# Altium integrated library Motorola RF and IF Frequency Synthesiser.IntLib: 27 symbols
Pins are listed as number, name and electrical type; pins without a type are passive.

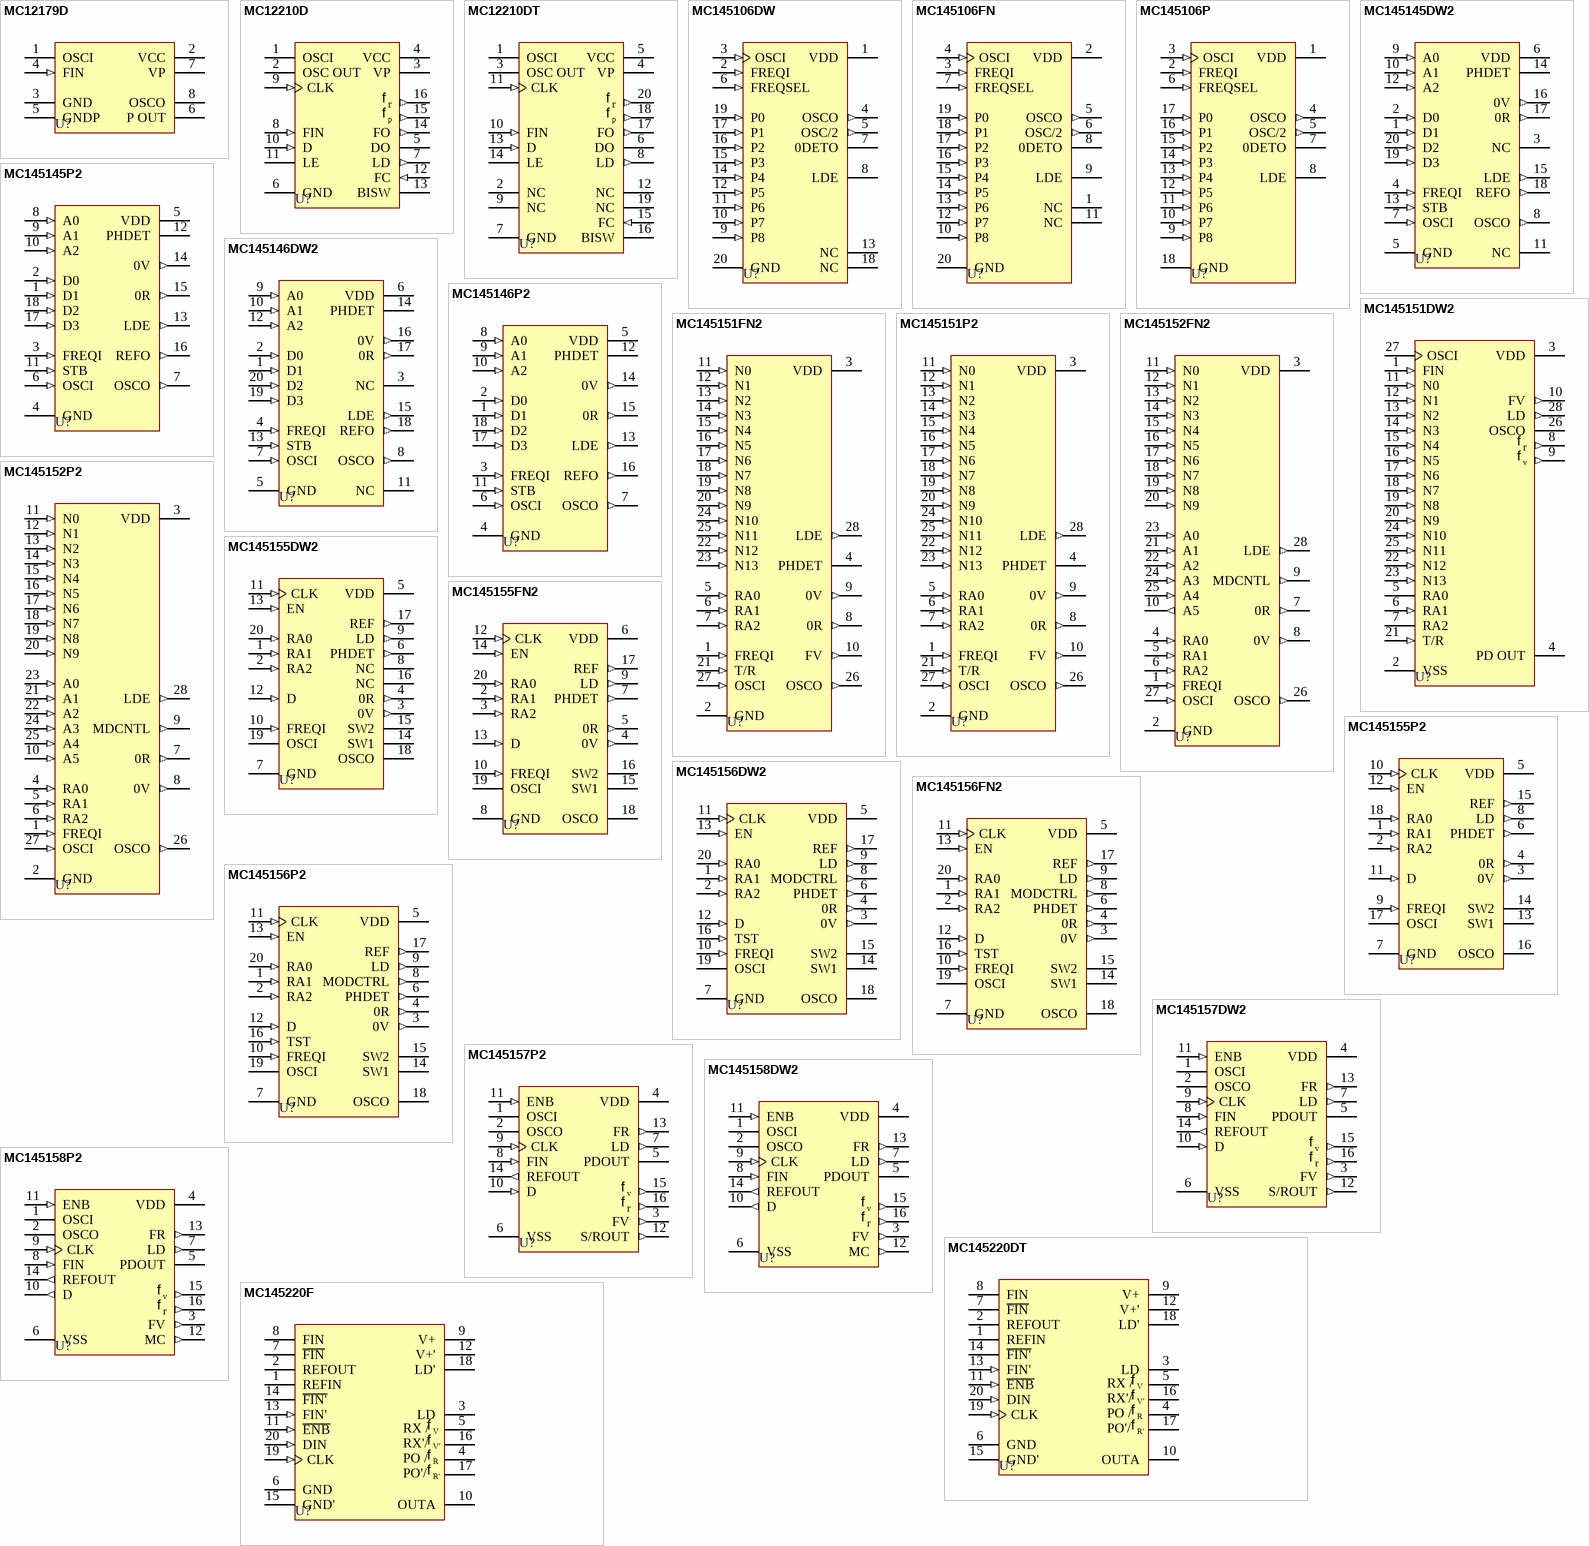
[diagram p0: symbols MC12179D to MC145220F]

## MC12179D
designator U?
500-2800MHZ Single Channel Frequency Synthesizer; Published: 28-Feb-2003; LatestRevisionDate: 13-Apr-2006; LatestRevisionNote: IPC-7351 Footprint Added.; DatasheetVersion: 1997, Rev. 3; PackageVersion: Sep-1999; PackageReference: 751-06; Publisher: Altium Limited; PackageDescription: 8-Pin Small Outline Integrated Circuit 1.27 mm Pitch; Code_JEDEC: MS-012-AA; Code_IPC: SOIC127P600-8
footprint 751-06_N (SOIC, 8-Leads, Body 4.9x3.9mm, Pitch 1.27mm, IPC Medium Density)
footprint 751-06_L (SOIC, 8-Leads, Body 4.9x3.9mm, Pitch 1.27mm, IPC High Density)
footprint 751-06_M (SOIC, 8-Leads, Body 4.9x3.9mm, Pitch 1.27mm, IPC Low Density)
3D model 751-06 (8-Pin Small Outline Integrated Circuit 1.27 mm Pitch)
pins: 1 OSCI, 2 VCC (power), 3 GND (power), 4 FIN (in), 5 GNDP (power), 6 P OUT (hiz), 7 VP (power), 8 OSCO

## MC12210D
designator U?
Serial-Input PLL Frequency Synthesizer; Published: 28-Feb-2003; LatestRevisionDate: 13-Apr-2006; LatestRevisionNote: IPC-7351 Footprint Added.; DatasheetVersion: 1997, Rev. 4; PackageVersion: May-1997; PackageReference: 751B-05; Publisher: Altium Limited; PackageDescription: 16-Pin Small Outline Integrated Circuit 1.27 mm Pitch; Code_JEDEC: MS-012-AC; Code_IPC: SOIC127P600-16
footprint 751B-05_N (SOIC, 16-Leads, Body 9.9x3.9mm, Pitch 1.27mm, IPC Medium Density)
footprint 751B-05_L (SOIC, 16-Leads, Body 9.9x3.9mm, Pitch 1.27mm, IPC High Density)
footprint 751B-05_M (SOIC, 16-Leads, Body 9.9x3.9mm, Pitch 1.27mm, IPC Low Density)
3D model 751B-05 (16-Pin Small Outline Integrated Circuit 1.27 mm Pitch)
pins: 1 OSCI, 2 OSC OUT, 3 VP (power), 4 VCC (power), 5 DO (hiz), 6 GND (power), 7 LD (out), 8 FIN (in), 9 CLK (in), 10 D (in), 11 LE, 12 FC (in), 13 BISW (hiz), 14 FO (out), 15 phiP (out), 16 phiR (out)
text: f; r; p

## MC12210DT
designator U?
Serial-Input PLL Frequency Synthesizer; Published: 28-Feb-2003; LatestRevisionDate: 06-Jun-2005; LatestRevisionNote: Stylized 3D Model Added.; DatasheetVersion: 1997, Rev. 4; PackageVersion: 1997; PackageReference: 948E-02; Publisher: Altium Limited; PackageDescription: Shrink Small Outline; 20 Leads; Body Width 4.4 mm; Pitch 0.65 mm
footprint 948E-02 (Shrink Small Outline; 20 Leads; Body Width 4.4 mm; Pitch 0.65 mm)
3D model 948E-02 (Shrink Small Outline; 20 Leads; Body Width 4.4 mm; Pitch 0.65 mm)
pins: 1 OSCI, 2 NC, 3 OSC OUT, 4 VP (power), 5 VCC (power), 6 DO (hiz), 7 GND (power), 8 LD (out), 9 NC, 10 FIN (in), 11 CLK (in), 12 NC, 13 D (in), 14 LE, 15 FC (in), 16 BISW (hiz), 17 FO (out), 18 phiP (out), 19 NC, 20 phiR (out)
text: f; r; p

## MC145106DW
designator U?
PLL Frequency Synthesizer; Note: Pins 13 & 18 NC and not drawn.; Published: 17-Jul-2002; LatestRevisionDate: 13-Apr-2006; LatestRevisionNote: IPC-7351 Footprint Added.; DatasheetVersion: 1991; PackageReference: 751D-03; Publisher: Altium Limited; PackageDescription: 20-Pin Small Outline Integrated Circuit 1.27 mm Pitch
footprint 751D-03_N (SOIC, 20-Leads, Body 12.8x7.5mm, Pitch 1.27mm, IPC Medium Density)
footprint 751D-03_L (SOIC, 20-Leads, Body 12.8x7.5mm, Pitch 1.27mm, IPC High Density)
footprint 751D-03_M (SOIC, 20-Leads, Body 12.8x7.5mm, Pitch 1.27mm, IPC Low Density)
3D model 751D-03 (20-Pin Small Outline Integrated Circuit 1.27 mm Pitch)
pins: 1 VDD (power), 2 FREQI (in), 3 OSCI (in), 4 OSCO (out), 5 OSC/2 (out), 6 FREQSEL (in), 7 0DETO (hiz), 8 LDE (hiz), 9 P8 (in), 10 P7 (in), 11 P6 (in), 12 P5 (in), 13 NC, 14 P4 (in), 15 P3 (in), 16 P2 (in), 17 P1 (in), 18 NC, 19 P0 (in), 20 GND (power)

## MC145106FN
designator U?
PLL Frequency Synthesizer; Note: Pins 1 & 11 NC and not drawn.; Published: 17-Jul-2002; LatestRevisionDate: 13-Apr-2006; LatestRevisionNote: IPC-7351 Footprint Added.; DatasheetVersion: 1991; PackageReference: 775-02; Publisher: Altium Limited; PackageDescription: 20-Pin Leaded Chip Carrier 1.27 mm Pitch
footprint 775-02_N (Leaded Chip Carrier, 20-Leads, Body 9x9mm, Pitch 1.27mm, IPC Medium Density)
footprint 775-02_L (Leaded Chip Carrier, 20-Leads, Body 9x9mm, Pitch 1.27mm, IPC High Density)
footprint 775-02_M (Leaded Chip Carrier, 20-Leads, Body 9x9mm, Pitch 1.27mm, IPC Low Density)
3D model MC145106-775-02 (20-Pin Leaded Chip Carrier 1.27 mm Pitch)
pins: 1 NC, 2 VDD (power), 3 FREQI (in), 4 OSCI (in), 5 OSCO (out), 6 OSC/2 (out), 7 FREQSEL (in), 8 0DETO (hiz), 9 LDE (hiz), 10 P8 (in), 11 NC, 12 P7 (in), 13 P6 (in), 14 P5 (in), 15 P4 (in), 16 P3 (in), 17 P2 (in), 18 P1 (in), 19 P0 (in), 20 GND (power)

## MC145106P
designator U?
PLL Frequency Synthesizer; Published: 17-Jul-2002; LatestRevisionDate: 06-Jun-2005; LatestRevisionNote: Stylized 3D Model Added.; DatasheetVersion: 1991; PackageReference: 707-02; Publisher: Altium Limited; PackageDescription: DIP; 18 Leads; Row Spacing 7.62 mm; Pitch 2.54 mm
footprint 707-02 (DIP; 18 Leads; Row Spacing 7.62 mm; Pitch 2.54 mm)
3D model 707-02 (DIP; 18 Leads; Row Spacing 7.62 mm; Pitch 2.54 mm)
pins: 1 VDD (power), 2 FREQI (in), 3 OSCI (in), 4 OSCO (out), 5 OSC/2 (out), 6 FREQSEL (in), 7 0DETO (hiz), 8 LDE (hiz), 9 P8 (in), 10 P7 (in), 11 P6 (in), 12 P5 (in), 13 P4 (in), 14 P3 (in), 15 P2 (in), 16 P1 (in), 17 P0 (in), 18 GND (power)

## MC145145DW2
designator U?
4-Bit Data Bus Input PLL Frequency Synthesizer; Note: Pins 3 & 11 NC and not drawn.; Published: 17-Jul-2002; LatestRevisionDate: 13-Apr-2006; LatestRevisionNote: IPC-7351 Footprint Added.; DatasheetVersion: 1991; PackageReference: 751D-03; Publisher: Altium Limited; PackageDescription: 20-Pin Small Outline Integrated Circuit 1.27 mm Pitch
footprint 751D-03_N (SOIC, 20-Leads, Body 12.8x7.5mm, Pitch 1.27mm, IPC Medium Density)
footprint 751D-03_L (SOIC, 20-Leads, Body 12.8x7.5mm, Pitch 1.27mm, IPC High Density)
footprint 751D-03_M (SOIC, 20-Leads, Body 12.8x7.5mm, Pitch 1.27mm, IPC Low Density)
3D model 751D-03 (20-Pin Small Outline Integrated Circuit 1.27 mm Pitch)
pins: 1 D1 (in), 2 D0 (in), 3 NC, 4 FREQI (in), 5 GND (power), 6 VDD (power), 7 OSCI (in), 8 OSCO (out), 9 A0 (in), 10 A1 (in), 11 NC, 12 A2 (in), 13 STB (in), 14 PHDET (hiz), 15 LDE (out), 16 0V (out), 17 0R (out), 18 REFO (out), 19 D3 (in), 20 D2 (in)

## MC145145P2
designator U?
4-Bit Data Bus Input PLL Frequency Synthesizer; Published: 17-Jul-2002; LatestRevisionDate: 06-Jun-2005; LatestRevisionNote: Stylized 3D Model Added.; DatasheetVersion: 1991; PackageReference: 707-02; Publisher: Altium Limited; PackageDescription: DIP; 18 Leads; Row Spacing 7.62 mm; Pitch 2.54 mm
footprint 707-02 (DIP; 18 Leads; Row Spacing 7.62 mm; Pitch 2.54 mm)
3D model 707-02 (DIP; 18 Leads; Row Spacing 7.62 mm; Pitch 2.54 mm)
pins: 1 D1 (in), 2 D0 (in), 3 FREQI (in), 4 GND (power), 5 VDD (power), 6 OSCI (in), 7 OSCO (out), 8 A0 (in), 9 A1 (in), 10 A2 (in), 11 STB (in), 12 PHDET (hiz), 13 LDE (out), 14 0V (out), 15 0R (out), 16 REFO (out), 17 D3 (in), 18 D2 (in)

## MC145146DW2
designator U?
4-Bit Data Bus Input PLL Frequency Synthesizer; Published: 17-Jul-2002; LatestRevisionDate: 13-Apr-2006; LatestRevisionNote: IPC-7351 Footprint Added.; DatasheetVersion: 1991; PackageReference: 751D-03; Publisher: Altium Limited; PackageDescription: 20-Pin Small Outline Integrated Circuit 1.27 mm Pitch
footprint 751D-03_N (SOIC, 20-Leads, Body 12.8x7.5mm, Pitch 1.27mm, IPC Medium Density)
footprint 751D-03_L (SOIC, 20-Leads, Body 12.8x7.5mm, Pitch 1.27mm, IPC High Density)
footprint 751D-03_M (SOIC, 20-Leads, Body 12.8x7.5mm, Pitch 1.27mm, IPC Low Density)
3D model 751D-03 (20-Pin Small Outline Integrated Circuit 1.27 mm Pitch)
pins: 1 D1 (in), 2 D0 (in), 3 NC, 4 FREQI (in), 5 GND (power), 6 VDD (power), 7 OSCI (in), 8 OSCO (out), 9 A0 (in), 10 A1 (in), 11 NC, 12 A2 (in), 13 STB (in), 14 PHDET (hiz), 15 LDE (out), 16 0V (out), 17 0R (out), 18 REFO (out), 19 D3 (in), 20 D2 (in)

## MC145146P2
designator U?
4-Bit Data Bus Input PLL Frequency Synthesizer; Published: 17-Jul-2002; LatestRevisionDate: 06-Jun-2005; LatestRevisionNote: Stylized 3D Model Added.; DatasheetVersion: 1991; PackageReference: 738-03; Publisher: Altium Limited; PackageDescription: DIP; 20 Leads; Row Spacing 7.62 mm; Pitch 2.54 mm; Code_JEDEC: MS-001-AD
footprint 738-03 (DIP; 20 Leads; Row Spacing 7.62 mm; Pitch 2.54 mm)
3D model 738-03 (DIP; 20 Leads; Row Spacing 7.62 mm; Pitch 2.54 mm)
pins: 1 D1 (in), 2 D0 (in), 3 FREQI (in), 4 GND (power), 5 VDD (power), 6 OSCI (in), 7 OSCO (out), 8 A0 (in), 9 A1 (in), 10 A2 (in), 11 STB (in), 12 PHDET (hiz), 13 LDE (out), 14 0V (out), 15 0R (out), 16 REFO (out), 17 D3 (in), 18 D2 (in)

## MC145151DW2
designator U?
Low-Power, PLL Frequency Synthesizer; Published: 28-Feb-2003; LatestRevisionDate: 13-Apr-2006; LatestRevisionNote: IPC-7351 Footprint Added.; DatasheetVersion: 12/99, Rev. 4; PackageVersion: May-1997; PackageReference: 751F-04; Publisher: Altium Limited; PackageDescription: 28-Pin Small Outline Integrated Circuit 1.27 mm Pitch; ComponentLink1Description: Manufacturer Link; ComponentLink1URL: http://www.freescale.com; ComponentLink2Description: Datasheet; ComponentLink2URL: http://www.freescale.com/files/rf_if/doc/data_sheet/MC145151-2.pdf
footprint 751F-04_N (SOIC, 28-Leads, Body 17.9x7.5mm, Pitch 1.27mm, IPC Medium Density)
footprint 751F-04_L (SOIC, 28-Leads, Body 17.9x7.5mm, Pitch 1.27mm, IPC High Density)
footprint 751F-04_M (SOIC, 28-Leads, Body 17.9x7.5mm, Pitch 1.27mm, IPC Low Density)
3D model 751F-04 (28-Pin Small Outline Integrated Circuit 1.27 mm Pitch)
pins: 1 FIN (in), 2 VSS (power), 3 VDD (power), 4 PD OUT (hiz), 5 RA0, 6 RA1 (in), 7 RA2, 8 phiR (out), 9 phiV (out), 10 FV (out), 11 N0 (in), 12 N1 (in), 13 N2 (in), 14 N3 (in), 15 N4 (in), 16 N5 (in), 17 N6 (in), 18 N7 (in), 19 N8 (in), 20 N9 (in), 21 T/R (in), 22 N12 (in), 23 N13 (in), 24 N10 (in), 25 N11 (in), 26 OSCO, 27 OSCI, 28 LD (out)
text: f; r; v

## MC145151FN2
designator U?
Parallel Input Frequency Synthesizer; Published: 17-Jul-2002; LatestRevisionDate: 13-Apr-2006; LatestRevisionNote: IPC-7351 Footprint Added.; DatasheetVersion: 1991; PackageReference: 776-02; Publisher: Altium Limited; PackageDescription: 28-Pin Leaded Chip Carrier 1.27 mm Pitch; ComponentLink1Description: Manufacturer Link; ComponentLink1URL: http://www.freescale.com; ComponentLink2Description: Datasheet; ComponentLink2URL: http://www.freescale.com/files/rf_if/doc/data_sheet/MC145151-2.pdf
footprint 776-02_N (Leaded Chip Carrier, 28-Leads, Body 11.5x11.5mm, Pitch 1.27mm, IPC Medium Density)
footprint 776-02_L (Leaded Chip Carrier, 28-Leads, Body 11.5x11.5mm, Pitch 1.27mm, IPC High Density)
footprint 776-02_M (Leaded Chip Carrier, 28-Leads, Body 11.5x11.5mm, Pitch 1.27mm, IPC Low Density)
3D model MC145151-776-02 (28-Pin Leaded Chip Carrier 1.27 mm Pitch)
pins: 1 FREQI (in), 2 GND (power), 3 VDD (power), 4 PHDET (hiz), 5 RA0 (in), 6 RA1 (in), 7 RA2 (in), 8 0R (out), 9 0V (out), 10 FV (out), 11 N0 (in), 12 N1 (in), 13 N2 (in), 14 N3 (in), 15 N4 (in), 16 N5 (in), 17 N6 (in), 18 N7 (in), 19 N8 (in), 20 N9 (in), 21 T/R (in), 22 N12 (in), 23 N13 (in), 24 N10 (in), 25 N11 (in), 26 OSCO (out), 27 OSCI (in), 28 LDE (out)

## MC145151P2
designator U?
Parallel Input Frequency Synthesizer; Published: 17-Jul-2002; LatestRevisionDate: 06-Jun-2005; LatestRevisionNote: Stylized 3D Model Added.; DatasheetVersion: 1991; PackageReference: 710-02; Publisher: Altium Limited; PackageDescription: DIP; 28 Leads; Row Spacing 15.24 mm; Pitch 2.54 mm; ComponentLink1Description: Manufacturer Link; ComponentLink1URL: http://www.freescale.com; ComponentLink2Description: Datasheet; ComponentLink2URL: http://www.freescale.com/files/rf_if/doc/data_sheet/MC145151-2.pdf
footprint 710-02 (DIP; 28 Leads; Row Spacing 15.24 mm; Pitch 2.54 mm)
3D model 710-02 (DIP; 28 Leads; Row Spacing 15.24 mm; Pitch 2.54 mm)
pins: 1 FREQI (in), 2 GND (power), 3 VDD (power), 4 PHDET (hiz), 5 RA0 (in), 6 RA1 (in), 7 RA2 (in), 8 0R (out), 9 0V (out), 10 FV (out), 11 N0 (in), 12 N1 (in), 13 N2 (in), 14 N3 (in), 15 N4 (in), 16 N5 (in), 17 N6 (in), 18 N7 (in), 19 N8 (in), 20 N9 (in), 21 T/R (in), 22 N12 (in), 23 N13 (in), 24 N10 (in), 25 N11 (in), 26 OSCO (out), 27 OSCI (in), 28 LDE (out)

## MC145152FN2
designator U?
Parallel Input Frequency Synthesizer; Published: 17-Jul-2002; LatestRevisionDate: 13-Apr-2006; LatestRevisionNote: IPC-7351 Footprint Added.; DatasheetVersion: 1991; PackageReference: 776-02; Publisher: Altium Limited; PackageDescription: 28-Pin Leaded Chip Carrier 1.27 mm Pitch; ComponentLink1Description: Manufacturer Link; ComponentLink1URL: http://www.freescale.com; ComponentLink2Description: Datasheet; ComponentLink2URL: http://www.freescale.com/files/rf_if/doc/data_sheet/MC145151-2.pdf
footprint 776-02_N (Leaded Chip Carrier, 28-Leads, Body 11.5x11.5mm, Pitch 1.27mm, IPC Medium Density)
footprint 776-02_L (Leaded Chip Carrier, 28-Leads, Body 11.5x11.5mm, Pitch 1.27mm, IPC High Density)
footprint 776-02_M (Leaded Chip Carrier, 28-Leads, Body 11.5x11.5mm, Pitch 1.27mm, IPC Low Density)
3D model MC145152-776-02 (28-Pin Leaded Chip Carrier 1.27 mm Pitch)
pins: 1 FREQI (in), 2 GND (power), 3 VDD (power), 4 RA0 (in), 5 RA1 (in), 6 RA2 (in), 7 0R (out), 8 0V (out), 9 MDCNTL (out), 10 A5 (out), 11 N0 (in), 12 N1 (in), 13 N2 (in), 14 N3 (in), 15 N4 (in), 16 N5 (in), 17 N6 (in), 18 N7 (in), 19 N8 (in), 20 N9 (in), 21 A1 (in), 22 A2 (in), 23 A0 (in), 24 A3 (in), 25 A4 (in), 26 OSCO (out), 27 OSCI (in), 28 LDE (out)

## MC145152P2
designator U?
Parallel Input Frequency Synthesizer; Published: 17-Jul-2002; LatestRevisionDate: 06-Jun-2005; LatestRevisionNote: Stylized 3D Model Added.; DatasheetVersion: 1991; PackageReference: 710-02; Publisher: Altium Limited; PackageDescription: DIP; 28 Leads; Row Spacing 15.24 mm; Pitch 2.54 mm; ComponentLink1Description: Manufacturer Link; ComponentLink1URL: http://www.freescale.com; ComponentLink2Description: Datasheet; ComponentLink2URL: http://www.freescale.com/files/rf_if/doc/data_sheet/MC145151-2.pdf
footprint 710-02 (DIP; 28 Leads; Row Spacing 15.24 mm; Pitch 2.54 mm)
3D model 710-02 (DIP; 28 Leads; Row Spacing 15.24 mm; Pitch 2.54 mm)
pins: 1 FREQI (in), 2 GND (power), 3 VDD (power), 4 RA0 (in), 5 RA1 (in), 6 RA2 (in), 7 0R (out), 8 0V (out), 9 MDCNTL (out), 10 A5 (in), 11 N0 (in), 12 N1 (in), 13 N2 (in), 14 N3 (in), 15 N4 (in), 16 N5 (in), 17 N6 (in), 18 N7 (in), 19 N8 (in), 20 N9 (in), 21 A1 (in), 22 A2 (in), 23 A0 (in), 24 A3 (in), 25 A4 (in), 26 OSCO (out), 27 OSCI (in), 28 LDE (out)

## MC145155DW2
designator U?
Serial Input PLL Frequency Synthesizer; Note: Pins 8 & 16 are NC and not drawn.; Published: 17-Jul-2002; LatestRevisionDate: 13-Apr-2006; LatestRevisionNote: IPC-7351 Footprint Added.; DatasheetVersion: 1991; PackageReference: 751D-03; Publisher: Altium Limited; PackageDescription: 20-Pin Small Outline Integrated Circuit 1.27 mm Pitch
footprint 751D-03_N (SOIC, 20-Leads, Body 12.8x7.5mm, Pitch 1.27mm, IPC Medium Density)
footprint 751D-03_L (SOIC, 20-Leads, Body 12.8x7.5mm, Pitch 1.27mm, IPC High Density)
footprint 751D-03_M (SOIC, 20-Leads, Body 12.8x7.5mm, Pitch 1.27mm, IPC Low Density)
3D model 751D-03 (20-Pin Small Outline Integrated Circuit 1.27 mm Pitch)
pins: 1 RA1 (in), 2 RA2 (in), 3 0V (out), 4 0R (out), 5 VDD (power), 6 PHDET (out), 7 GND (power), 8 NC, 9 LD (out), 10 FREQI (in), 11 CLK (in), 12 D (in), 13 EN (in), 14 SW1 (oc), 15 SW2 (oc), 16 NC, 17 REF (out), 18 OSCO, 19 OSCI, 20 RA0 (in)

## MC145155FN2
designator U?
Serial Input PLL Frequency Synthesizer; Note: Pins 1 & 11 NC and not drawn.; Published: 17-Jul-2002; LatestRevisionDate: 13-Apr-2006; LatestRevisionNote: IPC-7351 Footprint Added.; DatasheetVersion: 1991; PackageReference: 775-02; Publisher: Altium Limited; PackageDescription: 20-Pin Leaded Chip Carrier 1.27 mm Pitch
footprint 775-02_N (Leaded Chip Carrier, 20-Leads, Body 9x9mm, Pitch 1.27mm, IPC Medium Density)
footprint 775-02_L (Leaded Chip Carrier, 20-Leads, Body 9x9mm, Pitch 1.27mm, IPC High Density)
footprint 775-02_M (Leaded Chip Carrier, 20-Leads, Body 9x9mm, Pitch 1.27mm, IPC Low Density)
3D model MC145155-775-02 (20-Pin Leaded Chip Carrier 1.27 mm Pitch)
pins: 2 RA1 (in), 3 RA2 (in), 4 0V (out), 5 0R (out), 6 VDD (power), 7 PHDET (out), 8 GND (power), 9 LD (out), 10 FREQI (in), 12 CLK (in), 13 D (in), 14 EN (in), 15 SW1 (oc), 16 SW2 (oc), 17 REF (out), 18 OSCO, 19 OSCI, 20 RA0 (in)

## MC145155P2
designator U?
Serial Input PLL Frequency Synthesizer; Published: 17-Jul-2002; LatestRevisionDate: 06-Jun-2005; LatestRevisionNote: Stylized 3D Model Added.; DatasheetVersion: 1991; PackageReference: 707-02; Publisher: Altium Limited; PackageDescription: DIP; 18 Leads; Row Spacing 7.62 mm; Pitch 2.54 mm
footprint 707-02 (DIP; 18 Leads; Row Spacing 7.62 mm; Pitch 2.54 mm)
3D model 707-02 (DIP; 18 Leads; Row Spacing 7.62 mm; Pitch 2.54 mm)
pins: 1 RA1 (in), 2 RA2 (in), 3 0V (out), 4 0R (out), 5 VDD (power), 6 PHDET (out), 7 GND (power), 8 LD (out), 9 FREQI (in), 10 CLK (in), 11 D (in), 12 EN (in), 13 SW1 (oc), 14 SW2 (oc), 15 REF (out), 16 OSCO, 17 OSCI, 18 RA0 (in)

## MC145156DW2
designator U?
Serial Input PLL Frequency Synthesizer; Published: 17-Jul-2002; LatestRevisionDate: 13-Apr-2006; LatestRevisionNote: IPC-7351 Footprint Added.; DatasheetVersion: 1991; PackageReference: 751D-03; Publisher: Altium Limited; PackageDescription: 20-Pin Small Outline Integrated Circuit 1.27 mm Pitch
footprint 751D-03_N (SOIC, 20-Leads, Body 12.8x7.5mm, Pitch 1.27mm, IPC Medium Density)
footprint 751D-03_L (SOIC, 20-Leads, Body 12.8x7.5mm, Pitch 1.27mm, IPC High Density)
footprint 751D-03_M (SOIC, 20-Leads, Body 12.8x7.5mm, Pitch 1.27mm, IPC Low Density)
3D model 751D-03 (20-Pin Small Outline Integrated Circuit 1.27 mm Pitch)
pins: 1 RA1 (in), 2 RA2 (in), 3 0V (out), 4 0R (out), 5 VDD (power), 6 PHDET (out), 7 GND (power), 8 MODCTRL (out), 9 LD (out), 10 FREQI (in), 11 CLK (in), 12 D (in), 13 EN (in), 14 SW1 (oc), 15 SW2 (oc), 16 TST (in), 17 REF (out), 18 OSCO, 19 OSCI, 20 RA0 (in)

## MC145156FN2
designator U?
Serial Input PLL Frequency Synthesizer; Published: 17-Jul-2002; LatestRevisionDate: 13-Apr-2006; LatestRevisionNote: IPC-7351 Footprint Added.; DatasheetVersion: 1991; PackageReference: 775-02; Publisher: Altium Limited; PackageDescription: 20-Pin Leaded Chip Carrier 1.27 mm Pitch
footprint 775-02_N (Leaded Chip Carrier, 20-Leads, Body 9x9mm, Pitch 1.27mm, IPC Medium Density)
footprint 775-02_L (Leaded Chip Carrier, 20-Leads, Body 9x9mm, Pitch 1.27mm, IPC High Density)
footprint 775-02_M (Leaded Chip Carrier, 20-Leads, Body 9x9mm, Pitch 1.27mm, IPC Low Density)
3D model MC145156-775-02 (20-Pin Leaded Chip Carrier 1.27 mm Pitch)
pins: 1 RA1 (in), 2 RA2 (in), 3 0V (out), 4 0R (out), 5 VDD (power), 6 PHDET (out), 7 GND (power), 8 MODCTRL (out), 9 LD (out), 10 FREQI (in), 11 CLK (in), 12 D (in), 13 EN (in), 14 SW1 (oc), 15 SW2 (oc), 16 TST (in), 17 REF (out), 18 OSCO, 19 OSCI, 20 RA0 (in)

## MC145156P2
designator U?
Serial Input PLL Frequency Synthesizer; Published: 17-Jul-2002; LatestRevisionDate: 06-Jun-2005; LatestRevisionNote: Stylized 3D Model Added.; DatasheetVersion: 1991; PackageReference: 738-03; Publisher: Altium Limited; PackageDescription: DIP; 20 Leads; Row Spacing 7.62 mm; Pitch 2.54 mm; Code_JEDEC: MS-001-AD
footprint 738-03 (DIP; 20 Leads; Row Spacing 7.62 mm; Pitch 2.54 mm)
3D model 738-03 (DIP; 20 Leads; Row Spacing 7.62 mm; Pitch 2.54 mm)
pins: 1 RA1 (in), 2 RA2 (in), 3 0V (out), 4 0R (out), 5 VDD (power), 6 PHDET (out), 7 GND (power), 8 MODCTRL (out), 9 LD (out), 10 FREQI (in), 11 CLK (in), 12 D (in), 13 EN (in), 14 SW1 (oc), 15 SW2 (oc), 16 TST (in), 17 REF (out), 18 OSCO, 19 OSCI, 20 RA0 (in)

## MC145157DW2
designator U?
Serial-Input PLL Frequency Synthesizer; Published: 28-Feb-2003; LatestRevisionDate: 13-Apr-2006; LatestRevisionNote: IPC-7351 Footprint Added.; DatasheetVersion: 12/99, Rev. 4; PackageVersion: 1996; PackageReference: 751G-02; Publisher: Altium Limited; PackageDescription: 16-Pin Small Outline Integrated Circuit 1.27 mm Pitch
footprint 751G-02_N (SOIC, 16-Leads, Body 10.3x7.5mm, Pitch 1.27mm, IPC Medium Density)
footprint 751G-02_L (SOIC, 16-Leads, Body 10.3x7.5mm, Pitch 1.27mm, IPC High Density)
footprint 751G-02_M (SOIC, 16-Leads, Body 10.3x7.5mm, Pitch 1.27mm, IPC Low Density)
3D model 751G-02 (16-Pin Small Outline Integrated Circuit 1.27 mm Pitch)
pins: 1 OSCI, 2 OSCO, 3 FV (out), 4 VDD (power), 5 PDOUT (hiz), 6 VSS (power), 7 LD (out), 8 FIN (in), 9 CLK (in), 10 D (in), 11 ENB (in), 12 S/ROUT (out), 13 FR (out), 14 REFOUT (out), 15 phiV (out), 16 phiR (out)
text: f; v; r

## MC145157P2
designator U?
Serial-Input PLL Frequency Synthesizer; Published: 28-Feb-2003; LatestRevisionDate: 06-Jun-2005; LatestRevisionNote: Stylized 3D Model Added.; DatasheetVersion: 12/99, Rev. 4; PackageReference: 648-08; Publisher: Altium Limited; PackageDescription: DIP; 16 Leads; Row Spacing 7.62 mm; Pitch 2.54 mm; Code_JEDEC: MS-001-BB
footprint 648-08 (DIP; 16 Leads; Row Spacing 7.62 mm; Pitch 2.54 mm)
3D model 648-08 (DIP; 16 Leads; Row Spacing 7.62 mm; Pitch 2.54 mm)
pins: 1 OSCI, 2 OSCO, 3 FV (out), 4 VDD (power), 5 PDOUT (hiz), 6 VSS (power), 7 LD (out), 8 FIN (in), 9 CLK (in), 10 D (in), 11 ENB (in), 12 S/ROUT (out), 13 FR (out), 14 REFOUT (out), 15 phiV (out), 16 phiR (out)
text: f; v; r

## MC145158DW2
designator U?
Serial-Input PLL Frequency Synthesizer; Published: 28-Feb-2003; LatestRevisionDate: 13-Apr-2006; LatestRevisionNote: IPC-7351 Footprint Added.; DatasheetVersion: 12/99, Rev. 4; PackageVersion: 1996; PackageReference: 751G-02; Publisher: Altium Limited; PackageDescription: 16-Pin Small Outline Integrated Circuit 1.27 mm Pitch
footprint 751G-02_N (SOIC, 16-Leads, Body 10.3x7.5mm, Pitch 1.27mm, IPC Medium Density)
footprint 751G-02_L (SOIC, 16-Leads, Body 10.3x7.5mm, Pitch 1.27mm, IPC High Density)
footprint 751G-02_M (SOIC, 16-Leads, Body 10.3x7.5mm, Pitch 1.27mm, IPC Low Density)
3D model 751G-02 (16-Pin Small Outline Integrated Circuit 1.27 mm Pitch)
pins: 1 OSCI, 2 OSCO, 3 FV (out), 4 VDD (power), 5 PDOUT (hiz), 6 VSS (power), 7 LD (out), 8 FIN (in), 9 CLK (in), 10 D (out), 11 ENB (in), 12 MC (out), 13 FR (out), 14 REFOUT (out), 15 phiV (out), 16 phiR (out)
text: f; v; r

## MC145158P2
designator U?
Serial-Input PLL Frequency Synthesizer; Published: 28-Feb-2003; LatestRevisionDate: 06-Jun-2005; LatestRevisionNote: Stylized 3D Model Added.; DatasheetVersion: 12/99, Rev. 4; PackageReference: 648-08; Publisher: Altium Limited; PackageDescription: DIP; 16 Leads; Row Spacing 7.62 mm; Pitch 2.54 mm; Code_JEDEC: MS-001-BB
footprint 648-08 (DIP; 16 Leads; Row Spacing 7.62 mm; Pitch 2.54 mm)
3D model 648-08 (DIP; 16 Leads; Row Spacing 7.62 mm; Pitch 2.54 mm)
pins: 1 OSCI, 2 OSCO, 3 FV (out), 4 VDD (power), 5 PDOUT (hiz), 6 VSS (power), 7 LD (out), 8 FIN (in), 9 CLK (in), 10 D (out), 11 ENB (in), 12 MC (out), 13 FR (out), 14 REFOUT (out), 15 phiV (out), 16 phiR (out)
text: f; v; r

## MC145220DT
designator U?
Dual 1.1 GHz PLL Frequeny Synthesizer; Published: 28-Feb-2003; LatestRevisionDate: 06-Jun-2005; LatestRevisionNote: Stylized 3D Model Added.; DatasheetVersion: 1/1998, Rev. 4; PackageVersion: 1997; PackageReference: 948D-03; Publisher: Altium Limited; PackageDescription: Shrink Small Outline; 20 Leads; Body Width 4.4 mm; Pitch 0.65 mm
footprint 948D-03 (Shrink Small Outline; 20 Leads; Body Width 4.4 mm; Pitch 0.65 mm)
3D model 948D-03 (Shrink Small Outline; 20 Leads; Body Width 4.4 mm; Pitch 0.65 mm)
pins: 1 REFIN, 2 REFOUT, 3 LD (oc), 4 PO/phiR (hiz), 5 RX/phiV, 6 GND (power), 7 ~{FIN}, 8 FIN, 9 V+ (power), 10 OUTA (hiz), 11 ~{ENB} (in), 12 V+' (power), 13 FIN' (in), 14 ~{FIN'}, 15 GND' (power), 16 RX'/phiV', 17 PO'/phiR' (hiz), 18 LD' (oc), 19 CLK (in), 20 DIN (in)
text: RX /; f; V; RX'/; V'; PO /; R; PO'/; R'

## MC145220F
designator U?
Dual 1.1 GHz PLL Frequeny Synthesizer; Published: 28-Feb-2003; LatestRevisionDate: 13-Apr-2006; LatestRevisionNote: IPC-7351 Footprint Added.; DatasheetVersion: 1/1998, Rev. 4; PackageVersion: rev4.0, 2001; PackageReference: 803C-01; Publisher: Altium Limited; PackageDescription: 20-Pin Small Outline Package 1.27 mm Pitch
footprint 803C-01_N (SOP, 20-Leads, Body 12.6x5.3mm, Pitch 1.27mm, IPC Medium Density)
footprint 803C-01_L (SOP, 20-Leads, Body 12.6x5.3mm, Pitch 1.27mm, IPC High Density)
footprint 803C-01_M (SOP, 20-Leads, Body 12.6x5.3mm, Pitch 1.27mm, IPC Low Density)
3D model 803C-01 (20-Pin Small Outline Package 1.27 mm Pitch)
pins: 1 REFIN, 2 REFOUT, 3 LD (oc), 4 PO/phiR (hiz), 5 RX/phiV, 6 GND (power), 7 ~{FIN}, 8 FIN, 9 V+ (power), 10 OUTA (hiz), 11 ~{ENB} (in), 12 V+' (power), 13 FIN' (in), 14 ~{FIN'}, 15 GND' (power), 16 RX'/phiV', 17 PO'/phiR' (hiz), 18 LD' (oc), 19 CLK (in), 20 DIN (in)
text: RX /; f; V; RX'/; V'; PO /; R; PO'/; R'